# EAGLE library part 5530843-EDGE (library 5530843-6)
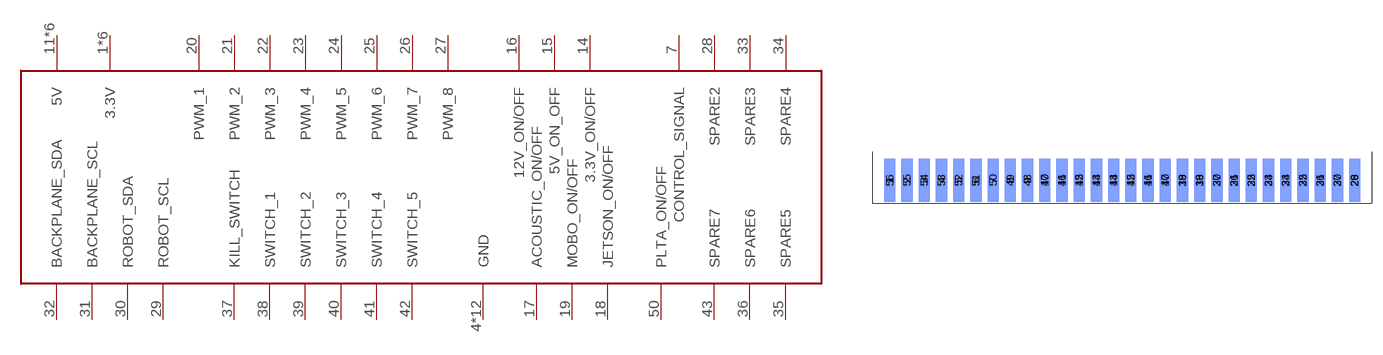
[diagram p0: symbol with the pads of 5530843-6-BOARDFINGERS; footprint 5530843-6-BOARDFINGERS]

Designator prefix -

## 5530843-EDGE  [5530843-6-BOARDFINGERS]
1  3.3V
2  3.3V
3  3.3V
4  GND
5  GND
6  GND
7  CONTROL_SIGNAL
8  GND
9  GND
10  GND
11  5V
12  5V
13  5V
14  3.3V_ON/OFF
15  5V_ON_OFF
16  12V_ON/OFF
17  ACOUSTIC_ON/OFF
18  JETSON_ON/OFF
19  MOBO_ON/OFF
20  PWM_1
21  PWM_2
22  PWM_3
23  PWM_4
24  PWM_5
25  PWM_6
26  PWM_7
27  PWM_8
28  SPARE2
29  ROBOT_SCL
30  ROBOT_SDA
31  BACKPLANE_SCL
32  BACKPLANE_SDA
33  SPARE3
34  SPARE4
35  SPARE5
36  SPARE6
37  KILL_SWITCH  out
38  SWITCH_1  out
39  SWITCH_2  out
40  SWITCH_3  out
41  SWITCH_4  out
42  SWITCH_5  out
43  SPARE7
44  5V
45  5V
46  5V
47  GND
48  GND
49  GND
50  PLTA_ON/OFF
51  GND
52  GND
53  GND
54  3.3V
55  3.3V
56  3.3V

## Footprint 5530843-6-BOARDFINGERS (pad centres in mm)
smd 1.651 x 6.35 bottom: 1 0.826,3.375; 2 3.365,3.375; 3 5.905,3.375; 4 8.445,3.375; 5 10.986,3.375; 6 13.525,3.375; 7 16.066,3.375; 8 18.605,3.375; 9 21.145,3.375; 10 23.686,3.375; 11 26.226,3.375; 12 28.765,3.375; 13 31.305,3.375; 14 33.846,3.375; 15 36.386,3.375; 16 38.925,3.375; 17 41.465,3.375; 18 44.005,3.375; 19 46.545,3.375; 20 49.086,3.375; 21 51.626,3.375; 22 54.166,3.375; 23 56.706,3.375; 24 59.245,3.375; 25 61.785,3.375; 26 64.326,3.375; 27 66.865,3.375; 28 69.406,3.375
smd 1.651 x 6.35: 29 69.406,3.375; 30 66.865,3.375; 31 64.326,3.375; 32 61.785,3.375; 33 59.245,3.375; 34 56.706,3.375; 35 54.166,3.375; 36 51.626,3.375; 37 49.086,3.375; 38 46.545,3.375; 39 44.005,3.375; 40 41.465,3.375; 41 38.925,3.375; 42 36.386,3.375; 43 33.846,3.375; 44 31.305,3.375; 45 28.765,3.375; 46 26.226,3.375; 47 23.686,3.375; 48 21.145,3.375; 49 18.605,3.375; 50 16.066,3.375; 51 13.525,3.375; 52 10.986,3.375; 53 8.445,3.375; 54 5.905,3.375; 55 3.365,3.375; 56 0.826,3.375